# EAGLE library part PHD_1X11 (library Ooo-Connectors)
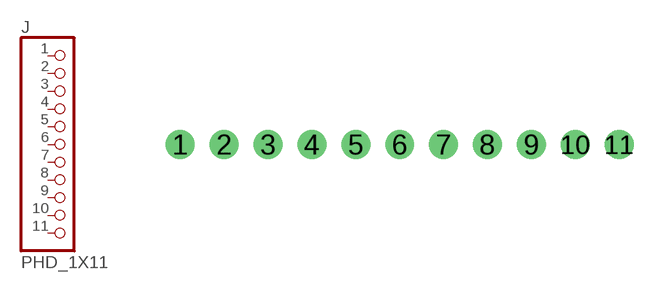
[diagram p7: symbol with the pads of PHD_1X11; footprint PHD_1X11]

Designator prefix J

## PHD_1X11  [PHD_1X11]
1  1  pas
2  2  pas
3  3  pas
4  4  pas
5  5  pas
6  6  pas
7  7  pas
8  8  pas
9  9  pas
10  10  pas
11  11  pas

## Footprint PHD_1X11 (pad centres in mm)
drill 1 pad 1.676: 1 0,0; 2 2.54,0; 3 5.08,0; 4 7.62,0; 5 10.16,0; 6 12.7,0; 7 15.24,0; 8 17.78,0; 9 20.32,0; 10 22.86,0; 11 25.4,0